# Altium schematic symbol library 2_way_splitter.SchLib: 1 symbol
Pins are listed as number, name and electrical type; pins without a type are passive.

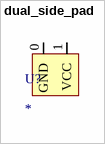
[diagram p0: symbol dual_side_pad]

## dual_side_pad
designator U?
footprint dual_side_pad
pins: 0 GND, 1 VCC